# EAGLE library part JTAG (library pimoroni-headers)
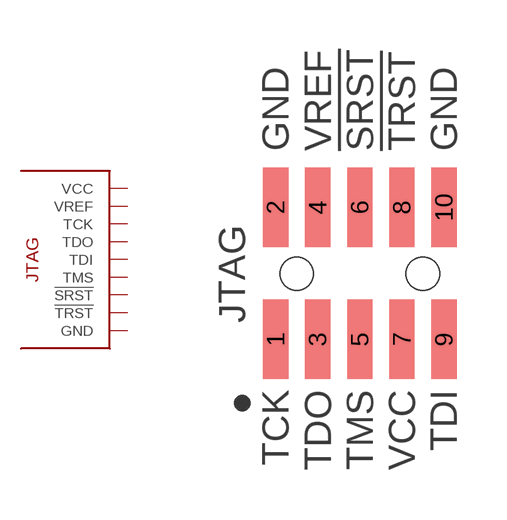
[diagram p0: symbol with the pads of JTAG-10-1.27MM; footprint JTAG-10-1.27MM]

Designator prefix -

## JTAG1.27MM-SMT  [JTAG-10-1.27MM]
1  TCK
2  GND
3  TDO
4  VREF
5  TMS
6  !SRST
7  VCC
8  !TRST
9  TDI
10  GND

## Footprint JTAG-10-1.27MM (pad centres in mm)
smd 0.76 x 2.4: 1 -2.54,-1.98; 2 -2.54,2; 3 -1.27,-1.98; 4 -1.27,2; 5 0,-1.98; 6 0,2; 7 1.27,-1.98; 8 1.27,2; 9 2.54,-1.98; 10 2.54,2
hole 1 at -1.905,0
hole 1 at 1.905,0